# Altium schematic symbol library WifiGain.SchLib: 9 symbols
Pins are listed as number, name and electrical type; pins without a type are passive.

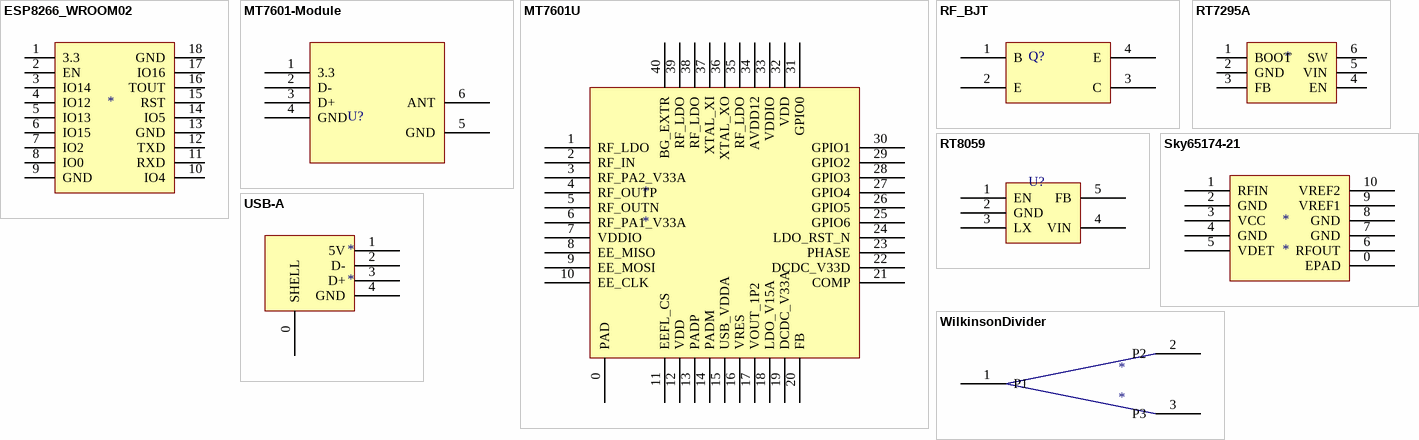
[diagram p0: symbols ESP8266_WROOM02 to WilkinsonDivider]

## ESP8266_WROOM02
designator *  (value not drawn)
footprint ESP8266-WROOM-02
pins: 1 3.3, 2 EN, 3 IO14, 4 IO12, 5 IO13, 6 IO15, 7 IO2, 8 IO0, 9 GND, 10 IO4, 11 RXD, 12 TXD, 13 GND, 14 IO5, 15 RST, 16 TOUT, 17 IO16, 18 GND

## MT7601-Module
designator U?  (value not drawn)
footprint MT7601-Module
pins: 1 3.3, 2 D-, 3 D+, 4 GND, 5 GND, 6 ANT

## MT7601U
designator *
footprint MT7601U
pins: 0 PAD, 1 RF_LDO, 2 RF_IN, 3 RF_PA2_V33A, 4 RF_OUTP, 5 RF_OUTN, 6 RF_PA1_V33A, 7 VDDIO, 8 EE_MISO, 9 EE_MOSI, 10 EE_CLK, 11 EEFL_CS, 12 VDD, 13 PADP, 14 PADM, 15 USB_VDDA, 16 VRES, 17 VOUT_1P2, 18 LDO_V15A, 19 DCDC_V33A, 20 FB, 21 COMP, 22 DCDC_V33D, 23 PHASE, 24 LDO_RST_N, 25 GPIO6, 26 GPIO5, 27 GPIO4, 28 GPIO3, 29 GPIO2, 30 GPIO1, 31 GPIO0, 32 VDD, 33 VDDIO, 34 AVDD12, 35 RF_LDO, 36 XTAL_XO, 37 XTAL_XI, 38 RF_LDO, 39 RF_LDO, 40 BG_EXTR

## RF_BJT
designator Q?  (value not drawn)
footprint SOT343-4(RF)
pins: 1 B, 2 E, 3 C, 4 E

## RT7295A
designator *  (value not drawn)
footprint SOT23-6 (SOT23-5)
pins: 1 BOOT, 2 GND, 3 FB, 4 EN, 5 VIN, 6 SW

## RT8059
designator U?
footprint SOT23-5
pins: 1 EN, 2 GND, 3 LX, 4 VIN, 5 FB

## Sky65174-21
designator *
footprint SKY65174-21
pins: 0 EPAD, 1 RFIN, 2 GND, 3 VCC, 4 GND, 5 VDET, 6 RFOUT, 7 GND, 8 GND, 9 VREF1, 10 VREF2

## USB-A
designator *
footprint USB-A-Male
pins: 0 SHELL, 1 5V, 2 D-, 3 D+, 4 GND

## WilkinsonDivider
designator *
footprint WilkinsonDivider
pins: 1 P1, 2 P2, 3 P3